# Altium footprint library cap.PcbLib: 78 footprints (part 4 of 5)
Each footprint in its own frame and in the unit in brackets; x right, y up, seen from the top. Pads: shape width x height; smd on the part's side, far side on the other; paste and mask are expansions set on the pad; w line width, h text height; cw(c..) or ccw(c..) is an arc to the next point about the centre after c.
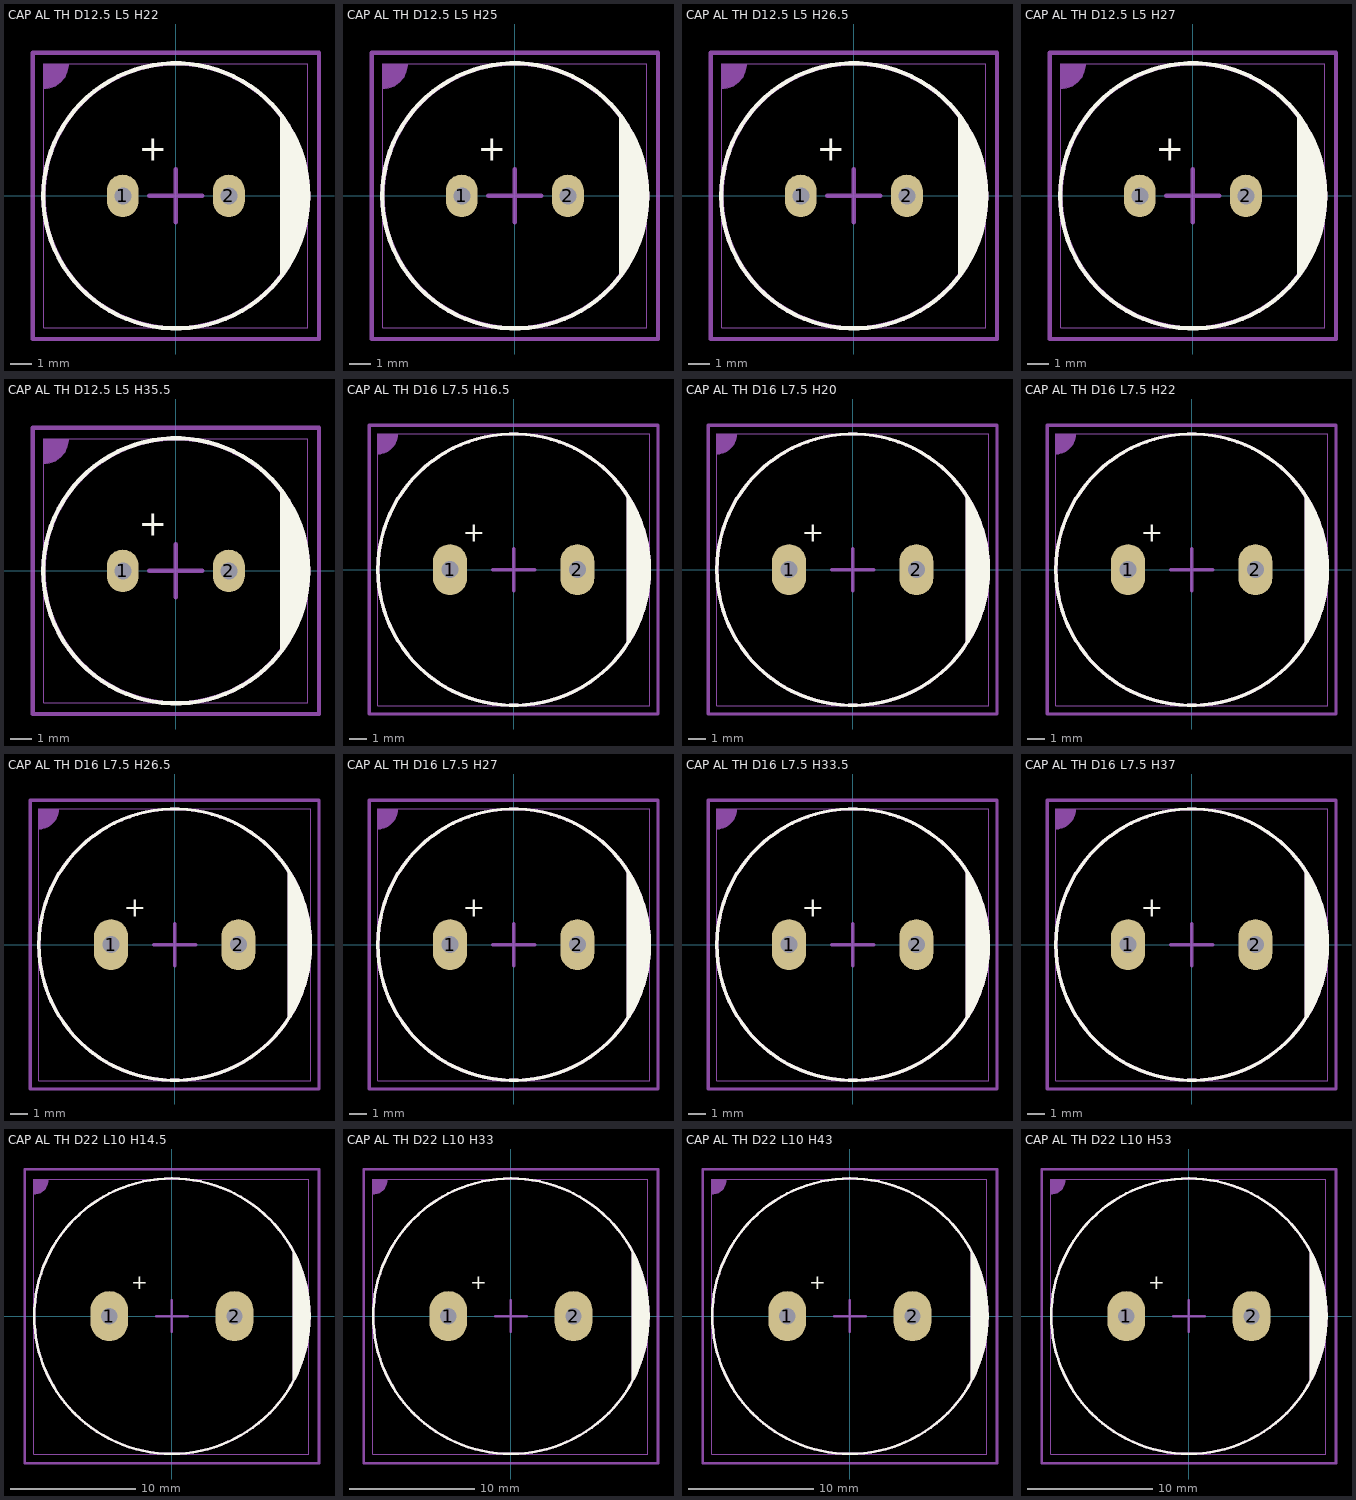
[diagram p3: the footprints below, top view; thin cyan lines are the x and y axes]

## CAP AL TH D12.5 L5 H22 [mm] "12.5MM Diameter, 5MM Lead Spacing Aluminium Capacitor"
height 22
pads (2):
  oval 1.5x2 hole 0.8: 1(-2.5,0) 2(2.5,0)
Top Overlay:
  circle w0.2: c0,0 r6.25
  region: 5,-3.75 5,3.75 5.75,2.5 6.25,1 6.25,0 6,-1.5 5.75,-2.5
  lines w0.2: 5,-3.75 5,3.75
  text "+" at -1.75,1.25 h2
Mechanical 13:
  circle w0.2: c0,0 r6.241
  lines w0.2: 5,-3.75 5,3.75
M15:
  region: -6.223,6.223 -6.223,5.038 -5.654,5.176 -5.211,5.6 -5.028,6.223
  lines w0.051: -6.223,-6.223 6.223,-6.223 6.223,6.223 -6.223,6.223 -6.223,-6.223 ; -6.223,5.052 ccw(c-6.223,6.223) -5.052,6.223 cw(c-6.223,6.223) -6.223,5.052
  text ".Designator" at -2.032,-1.397 h5.08
Mechanical 19:
  lines w0.2: -1.25,0 1.25,0 ; 0,-1.25 0,1.25 ; -6.75,-6.75 -6.75,0 -6.75,6.75 0,6.75 6.75,6.75 6.75,0 6.75,-6.75 0,-6.75 -6.75,-6.75
3D body "CAP ALTH D-12.5MM L-5.0MM H-22MM.STEP": height 22.2, standoff -3, extent -6.25,-6.249 6.25,6.249

## CAP AL TH D12.5 L5 H25 [mm] "12.5MM Diameter, 5MM Lead Spacing Aluminium Capacitor"
height 25
pads (2):
  oval 1.5x2 hole 0.8: 1(-2.5,0) 2(2.5,0)
Top Overlay:
  circle w0.2: c0,0 r6.25
  region: 5,-3.75 5,3.75 5.75,2.5 6.25,1 6.25,0 6,-1.5 5.75,-2.5
  lines w0.2: 5,-3.75 5,3.75
  text "+" at -1.75,1.25 h2
Mechanical 13:
  circle w0.2: c0,0 r6.241
  lines w0.2: 5,-3.75 5,3.75
M15:
  region: -6.223,6.223 -6.223,5.038 -5.654,5.176 -5.211,5.6 -5.028,6.223
  lines w0.051: -6.223,-6.223 6.223,-6.223 6.223,6.223 -6.223,6.223 -6.223,-6.223 ; -6.223,5.052 ccw(c-6.223,6.223) -5.052,6.223 cw(c-6.223,6.223) -6.223,5.052
  text ".Designator" at -2.032,-1.397 h5.08
Mechanical 19:
  lines w0.2: -1.25,0 1.25,0 ; 0,-1.25 0,1.25 ; -6.75,-6.75 0,-6.75 6.75,-6.75 6.75,0 6.75,6.75 0,6.75 -6.75,6.75 -6.75,0 -6.75,-6.75
3D body "CAP ALTH D-12.5MM L-5.0MM H-25MM.STEP": height 25.2, standoff -3, extent -6.25,-6.246 6.25,6.247

## CAP AL TH D12.5 L5 H26.5 [mm] "12.5MM Diameter, 5MM Lead Spacing Aluminium Capacitor"
height 26.5
pads (2):
  oval 1.5x2 hole 0.8: 1(-2.5,0) 2(2.5,0)
Top Overlay:
  circle w0.2: c0,0 r6.25
  region: 5,-3.75 5,3.75 5.75,2.5 6.25,1 6.25,0 6,-1.5 5.75,-2.5
  lines w0.2: 5,-3.75 5,3.75
  text "+" at -1.75,1.25 h2
Mechanical 13:
  circle w0.2: c0,0 r6.241
  lines w0.2: 5,-3.75 5,3.75
M15:
  region: -6.223,6.223 -6.223,5.038 -5.654,5.176 -5.211,5.6 -5.028,6.223
  lines w0.051: -6.223,-6.223 6.223,-6.223 6.223,6.223 -6.223,6.223 -6.223,-6.223 ; -6.223,5.052 ccw(c-6.223,6.223) -5.052,6.223 cw(c-6.223,6.223) -6.223,5.052
  text ".Designator" at -2.032,-1.397 h5.08
Mechanical 19:
  lines w0.2: -1.25,0 1.25,0 ; 0,-1.25 0,1.25 ; -6.75,-6.75 0,-6.75 6.75,-6.75 6.75,0 6.75,6.75 0,6.75 -6.75,6.75 -6.75,0 -6.75,-6.75
3D body "CAP ALTH D-12.5MM L-5.0MM H-26.5MM.STEP": height 26.7, standoff -3, extent -6.25,-6.25 6.25,6.25

## CAP AL TH D12.5 L5 H27 [mm] "12.5MM Diameter, 5MM Lead Spacing Aluminium Capacitor"
height 27
pads (2):
  oval 1.5x2 hole 0.8: 1(-2.5,0) 2(2.5,0)
Top Overlay:
  circle w0.2: c0,0 r6.25
  region: 5,-3.75 5,3.75 5.75,2.5 6.25,1 6.25,0 6,-1.5 5.75,-2.5
  lines w0.2: 5,-3.75 5,3.75
  text "+" at -1.75,1.25 h2
Mechanical 13:
  circle w0.2: c0,0 r6.241
  lines w0.2: 5,-3.75 5,3.75
Top Component:
  lines w0.051: -6.223,-6.223 6.223,-6.223
M15:
  region: -6.223,6.223 -6.223,5.038 -5.654,5.176 -5.211,5.6 -5.028,6.223
  lines w0.051: -6.223,-6.223 -6.223,6.223 6.223,6.223 6.223,-6.223 ; -6.223,5.052 ccw(c-6.223,6.223) -5.052,6.223 cw(c-6.223,6.223) -6.223,5.052
  text ".Designator" at -2.032,-1.397 h5.08
Mechanical 19:
  lines w0.2: -1.25,0 1.25,0 ; 0,-1.25 0,1.25 ; -6.75,-6.75 -6.75,0 -6.75,6.75 0,6.75 6.75,6.75 6.75,0 6.75,-6.75 0,-6.75 -6.75,-6.75
3D body "CAP ALTH D-12.5MM L-5.0MM H-27MM.STEP": height 27.2, standoff -3, extent -6.25,-6.25 6.25,6.25

## CAP AL TH D12.5 L5 H35.5 [mm] "12.5MM Diameter, 5MM Lead Spacing Aluminium Capacitor"
height 35.5
pads (2):
  oval 1.5x2 hole 0.8: 1(-2.5,0) 2(2.5,0)
Top Overlay:
  circle w0.2: c0,0 r6.25
  region: 5,-3.75 5,3.75 5.75,2.5 6.25,1 6.25,0 6,-1.5 5.75,-2.5
  lines w0.2: 5,-3.75 5,3.75
  text "+" at -1.75,1.25 h2
Mechanical 13:
  circle w0.2: c0,0 r6.241
  lines w0.2: 5,-3.75 5,3.75
M15:
  region: -6.223,6.223 -6.223,5.038 -5.654,5.176 -5.211,5.6 -5.028,6.223
  lines w0.051: -6.223,-6.223 6.223,-6.223 6.223,6.223 -6.223,6.223 -6.223,-6.223 ; -6.223,5.052 ccw(c-6.223,6.223) -5.052,6.223 cw(c-6.223,6.223) -6.223,5.052
  text ".Designator" at -2.032,-1.397 h5.08
Mechanical 19:
  lines w0.2: -1.25,0 1.25,0 ; 0,-1.25 0,1.25 ; -6.75,-6.75 -6.75,0 -6.75,6.75 0,6.75 6.75,6.75 6.75,0 6.75,-6.75 0,-6.75 -6.75,-6.75
3D body "CAP ALTH D-12.5MM L-5.0MM H-35.5MM.STEP": height 35.7, standoff -3, extent -6.25,-6.25 6.25,6.25

## CAP AL TH D16 L7.5 H16.5 [mm] "16MM Diameter, 7.5MM Lead Spacing Aluminium Capacitor"
height 16.5
pads (2):
  oval 2x3 hole 1: 1(-3.75,0) 2(3.75,0)
Top Overlay:
  circle w0.2: c0,0 r8
  region: 6.75,-4.25 6.75,4.25 7.5,2.75 8,1 8,0 7.75,-1.75 7.5,-2.75
  lines w0.2: 6.75,-4.25 6.75,4.25
  text "+" at -3,1.25 h2
Mechanical 13:
  circle w0.2: c0,0 r8
  lines w0.2: 6.75,-4.25 6.75,4.25
M15:
  region: -8.001,8.001 -8.001,6.816 -7.432,6.954 -6.989,7.378 -6.806,8.001
  lines w0.051: -8.001,-8.001 8.001,-8.001 8.001,8.001 -8.001,8.001 -8.001,-8.001 ; -8.001,6.83 ccw(c-8.001,8.001) -6.83,8.001 cw(c-8.001,8.001) -8.001,6.83
  text ".Designator" at -2.032,-1.397 h5.08
Mechanical 19:
  lines w0.2: -1.25,0 1.25,0 ; 0,-1.25 0,1.25 ; -8.5,-8.5 -8.5,8.5 8.5,8.5 8.5,-8.5 -8.5,-8.5
3D body "CAP ALTH D-16MM L-7.5MM H-16.5MM .STEP": height 16.7, standoff -3, extent -8,-7.991 8,7.991

## CAP AL TH D16 L7.5 H20 [mm] "16MM Diameter, 7.5MM Lead Spacing Aluminium Capacitor"
height 20
pads (2):
  oval 2x3 hole 1: 1(-3.75,0) 2(3.75,0)
Top Overlay:
  circle w0.2: c0,0 r8
  region: 6.75,-4.25 6.75,4.25 7.5,2.75 8,1 8,0 7.75,-1.75 7.5,-2.75
  lines w0.2: 6.75,-4.25 6.75,4.25
  text "+" at -3,1.25 h2
Mechanical 13:
  circle w0.2: c0,0 r8
  lines w0.2: 6.75,-4.25 6.75,4.25
M15:
  region: -8.001,8.001 -8.001,6.816 -7.432,6.954 -6.989,7.378 -6.806,8.001
  lines w0.051: -8.001,-8.001 8.001,-8.001 8.001,8.001 -8.001,8.001 -8.001,-8.001 ; -8.001,6.83 ccw(c-8.001,8.001) -6.83,8.001 cw(c-8.001,8.001) -8.001,6.83
  text ".Designator" at -2.032,-1.397 h5.08
Mechanical 19:
  lines w0.2: -1.25,0 1.25,0 ; 0,-1.25 0,1.25 ; -8.5,-8.5 -8.5,8.5 8.5,8.5 8.5,-8.5 -8.5,-8.5
3D body "CAP ALTH D-16MM L-7.5MM H-20MM .STEP": height 20.2, standoff -3, extent -8,-7.994 8,7.994

## CAP AL TH D16 L7.5 H22 [mm] "16MM Diameter, 7.5MM Lead Spacing Aluminium Capacitor"
height 22
pads (2):
  oval 2x3 hole 1: 1(-3.75,0) 2(3.75,0)
Top Overlay:
  circle w0.2: c0,0 r8
  region: 6.75,-4.25 6.75,4.25 7.5,2.75 8,1 8,0 7.75,-1.75 7.5,-2.75
  lines w0.2: 6.75,-4.25 6.75,4.25
  text "+" at -3,1.25 h2
Mechanical 13:
  circle w0.2: c0,0 r8
  lines w0.2: 6.75,-4.25 6.75,4.25
M15:
  region: -8.001,8.001 -8.001,6.816 -7.432,6.954 -6.989,7.378 -6.806,8.001
  lines w0.051: -8.001,-8.001 8.001,-8.001 8.001,8.001 -8.001,8.001 -8.001,-8.001 ; -8.001,6.83 ccw(c-8.001,8.001) -6.83,8.001 cw(c-8.001,8.001) -8.001,6.83
  text ".Designator" at -2.032,-1.397 h5.08
Mechanical 19:
  lines w0.2: -1.25,0 1.25,0 ; 0,-1.25 0,1.25 ; -8.5,-8.5 -8.5,8.5 8.5,8.5 8.5,-8.5 -8.5,-8.5
3D body "CAP ALTH D-16MM L-7.5MM H-22MM .STEP": height 22.2, standoff -3, extent -8,-7.998 8,7.998

## CAP AL TH D16 L7.5 H26.5 [mm] "16MM Diameter, 7.5MM Lead Spacing Aluminium Capacitor"
height 26.5
pads (2):
  oval 2x3 hole 1: 1(-3.75,0) 2(3.75,0)
Top Overlay:
  circle w0.2: c0,0 r8
  region: 6.75,-4.25 6.75,4.25 7.5,2.75 8,1 8,0 7.75,-1.75 7.5,-2.75
  lines w0.2: 6.75,-4.25 6.75,4.25
  text "+" at -3,1.25 h2
Mechanical 13:
  circle w0.2: c0,0 r8
  lines w0.2: 6.75,-4.25 6.75,4.25
M15:
  region: -8.001,8.001 -8.001,6.816 -7.432,6.954 -6.989,7.378 -6.806,8.001
  lines w0.051: -8.001,-8.001 8.001,-8.001 8.001,8.001 -8.001,8.001 -8.001,-8.001 ; -8.001,6.83 ccw(c-8.001,8.001) -6.83,8.001 cw(c-8.001,8.001) -8.001,6.83
  text ".Designator" at -2.032,-1.397 h5.08
Mechanical 19:
  lines w0.2: -1.25,0 1.25,0 ; 0,-1.25 0,1.25 ; -8.5,-8.5 8.5,-8.5 8.5,8.5 -8.5,8.5 -8.5,-8.5
3D body "CAP ALTH D-16MM L-7.5MM H-26.5MM .STEP": height 26.7, standoff -3, extent -8,-7.994 8,7.995

## CAP AL TH D16 L7.5 H27 [mm] "16MM Diameter, 7.5MM Lead Spacing Aluminium Capacitor"
height 27
pads (2):
  oval 2x3 hole 1: 1(-3.75,0) 2(3.75,0)
Top Overlay:
  circle w0.2: c0,0 r8
  region: 6.75,-4.25 6.75,4.25 7.5,2.75 8,1 8,0 7.75,-1.75 7.5,-2.75
  lines w0.2: 6.75,-4.25 6.75,4.25
  text "+" at -3,1.25 h2
Mechanical 13:
  circle w0.2: c0,0 r8
  lines w0.2: 6.75,-4.25 6.75,4.25
M15:
  region: -8.001,8.001 -8.001,6.816 -7.432,6.954 -6.989,7.378 -6.806,8.001
  lines w0.051: -8.001,-8.001 8.001,-8.001 8.001,8.001 -8.001,8.001 -8.001,-8.001 ; -8.001,6.83 ccw(c-8.001,8.001) -6.83,8.001 cw(c-8.001,8.001) -8.001,6.83
  text ".Designator" at -2.032,-1.397 h5.08
Mechanical 19:
  lines w0.2: -1.25,0 1.25,0 ; 0,-1.25 0,1.25 ; -8.5,-8.5 8.5,-8.5 8.5,8.5 -8.5,8.5 -8.5,-8.5
3D body "CAP ALTH D-16MM L-7.5MM H-27MM .STEP": height 27.2, standoff -3, extent -8,-7.994 8,7.995

## CAP AL TH D16 L7.5 H33.5 [mm] "16MM Diameter, 7.5MM Lead Spacing Aluminium Capacitor"
height 33.5
pads (2):
  oval 2x3 hole 1: 1(-3.75,0) 2(3.75,0)
Top Overlay:
  circle w0.2: c0,0 r8
  region: 6.75,-4.25 6.75,4.25 7.5,2.75 8,1 8,0 7.75,-1.75 7.5,-2.75
  lines w0.2: 6.75,-4.25 6.75,4.25
  text "+" at -3,1.25 h2
Mechanical 13:
  circle w0.2: c0,0 r8
  lines w0.2: 6.75,-4.25 6.75,4.25
M15:
  region: -8.001,8.001 -8.001,6.816 -7.432,6.954 -6.989,7.378 -6.806,8.001
  lines w0.051: -8.001,-8.001 8.001,-8.001 8.001,8.001 -8.001,8.001 -8.001,-8.001 ; -8.001,6.83 ccw(c-8.001,8.001) -6.83,8.001 cw(c-8.001,8.001) -8.001,6.83
  text ".Designator" at -2.032,-1.397 h5.08
Mechanical 19:
  lines w0.2: -1.25,0 1.25,0 ; 0,-1.25 0,1.25 ; -8.5,-8.5 -8.5,8.5 8.5,8.5 8.5,-8.5 -8.5,-8.5
3D body "CAP ALTH D-16MM L-7.5MM H-33.5MM.STEP": height 33.7, standoff -3, extent -8,-8 8,8

## CAP AL TH D16 L7.5 H37 [mm] "16MM Diameter, 7.5MM Lead Spacing Aluminium Capacitor"
height 37
pads (2):
  oval 2x3 hole 1: 1(-3.75,0) 2(3.75,0)
Top Overlay:
  circle w0.2: c0,0 r8
  region: 6.75,-4.25 6.75,4.25 7.5,2.75 8,1 8,0 7.75,-1.75 7.5,-2.75
  lines w0.2: 6.75,-4.25 6.75,4.25
  text "+" at -3,1.25 h2
Mechanical 13:
  circle w0.2: c0,0 r8
  lines w0.2: 6.75,-4.25 6.75,4.25
M15:
  region: -8.001,8.001 -8.001,6.816 -7.432,6.954 -6.989,7.378 -6.806,8.001
  lines w0.051: -8.001,-8.001 8.001,-8.001 8.001,8.001 -8.001,8.001 -8.001,-8.001 ; -8.001,6.83 ccw(c-8.001,8.001) -6.83,8.001 cw(c-8.001,8.001) -8.001,6.83
  text ".Designator" at -2.032,-1.397 h5.08
Mechanical 19:
  lines w0.2: -1.25,0 1.25,0 ; 0,-1.25 0,1.25 ; -8.5,-8.5 -8.5,8.5 8.5,8.5 8.5,-8.5 -8.5,-8.5
3D body "CAP ALTH D-16MM L-7.5MM H-37MM.STEP": height 37.2, standoff -3, extent -8,-8 8,8

## CAP AL TH D22 L10 H14.5 [mm] "16MM Diameter, 7.5MM Lead Spacing Aluminium Capacitor"
height 14.5
pads (2):
  oval 3x4 hole 1.3: 1(-5,0) 2(5,0)
Top Overlay:
  circle w0.2: c0,0 r11
  region: 9.75,-5 9.75,5 10.75,2.5 11,1 11,0 11,-1 10.5,-3.25
  lines w0.2: 9.75,-5 9.75,5
  text "+" at -3.25,1.75 h2
Mechanical 13:
  circle w0.2: c0,0 r11
  lines w0.2: 9.75,-5 9.75,5
Top Component:
  lines w0.051: -11.049,-11.049 10.922,-11.049
M15:
  region: -11.049,10.922 -11.049,9.737 -10.48,9.875 -10.037,10.299 -9.854,10.922
  lines w0.051: -11.049,-11.049 -11.049,10.922 10.922,10.922 10.922,-11.049 ; -11.049,9.751 ccw(c-11.049,10.922) -9.878,10.922 cw(c-11.049,10.922) -11.049,9.751
  text ".Designator" at -3.048,-2.032 h7.62
Mechanical 19:
  lines w0.2: -1.25,0 1.25,0 ; 0,-1.25 0,1.25 ; -11.75,-11.75 11.75,-11.75 11.75,11.75 -11.75,11.75 -11.75,-11.75
3D body "CAP ALTH D-22MM L-10MM H-14.5MM.STEP": height 14.7, standoff -3, extent -11,-10.99 11,10.991

## CAP AL TH D22 L10 H33 [mm] "16MM Diameter, 7.5MM Lead Spacing Aluminium Capacitor"
height 33
pads (2):
  oval 3x4 hole 1.3: 1(-5,0) 2(5,0)
Top Overlay:
  circle w0.2: c0,0 r11
  region: 9.75,-5 9.75,5 10.75,2.5 11,1 11,0 11,-1 10.5,-3.25
  lines w0.2: 9.75,-5 9.75,5
  text "+" at -3.25,1.75 h2
Mechanical 13:
  circle w0.2: c0,0 r11
  lines w0.2: 9.75,-5 9.75,5
M15:
  region: -11.049,10.922 -11.049,9.737 -10.48,9.875 -10.037,10.299 -9.854,10.922
  lines w0.051: -11.049,-11.049 10.922,-11.049 10.922,10.922 -11.049,10.922 -11.049,-11.049 ; -11.049,9.751 ccw(c-11.049,10.922) -9.878,10.922 cw(c-11.049,10.922) -11.049,9.751
  text ".Designator" at -3.048,-2.032 h7.62
Mechanical 19:
  lines w0.2: -1.25,0 1.25,0 ; 0,-1.25 0,1.25 ; -11.75,-11.75 -11.75,11.75 11.75,11.75 11.75,-11.75 -11.75,-11.75
3D body "CAP ALTH D-22MM L-10MM H-33MM.STEP": height 33.2, standoff -3, extent -11,-10.995 11,10.995

## CAP AL TH D22 L10 H43 [mm] "16MM Diameter, 7.5MM Lead Spacing Aluminium Capacitor"
height 43
pads (2):
  oval 3x4 hole 1.3: 1(-5,0) 2(5,0)
Top Overlay:
  circle w0.2: c0,0 r11
  region: 9.75,-5 9.75,5 10.75,2.5 11,1 11,0 11,-1 10.5,-3.25
  lines w0.2: 9.75,-5 9.75,5
  text "+" at -3.25,1.75 h2
Mechanical 13:
  circle w0.2: c0,0 r11
  lines w0.2: 9.75,-5 9.75,5
M15:
  region: -11.049,10.922 -11.049,9.737 -10.48,9.875 -10.037,10.299 -9.854,10.922
  lines w0.051: -11.049,-11.049 10.922,-11.049 10.922,10.922 -11.049,10.922 -11.049,-11.049 ; -11.049,9.751 ccw(c-11.049,10.922) -9.878,10.922 cw(c-11.049,10.922) -11.049,9.751
  text ".Designator" at -3.048,-2.032 h7.62
Mechanical 19:
  lines w0.2: -1.25,0 1.25,0 ; 0,-1.25 0,1.25 ; -11.75,-11.75 11.75,-11.75 11.75,11.75 -11.75,11.75 -11.75,-11.75
3D body "CAP ALTH D-22MM L-10MM H-43MM.STEP": height 43.2, standoff -3, extent -11,-10.983 11,10.984

## CAP AL TH D22 L10 H53 [mm] "16MM Diameter, 7.5MM Lead Spacing Aluminium Capacitor"
height 53
pads (2):
  oval 3x4 hole 1.3: 1(-5,0) 2(5,0)
Top Overlay:
  circle w0.2: c0,0 r11
  region: 9.75,-5 9.75,5 10.75,2.5 11,1 11,0 11,-1 10.5,-3.25
  lines w0.2: 9.75,-5 9.75,5
  text "+" at -3.25,1.75 h2
Mechanical 13:
  circle w0.2: c0,0 r11
  lines w0.2: 9.75,-5 9.75,5
M15:
  region: -11.049,10.922 -11.049,9.737 -10.48,9.875 -10.037,10.299 -9.854,10.922
  lines w0.051: -11.049,-11.049 10.922,-11.049 10.922,10.922 -11.049,10.922 -11.049,-11.049 ; -11.049,9.751 ccw(c-11.049,10.922) -9.878,10.922 cw(c-11.049,10.922) -11.049,9.751
  text ".Designator" at -3.048,-2.032 h7.62
Mechanical 19:
  lines w0.2: -1.25,0 1.25,0 ; 0,-1.25 0,1.25 ; -11.75,-11.75 -11.75,11.75 11.75,11.75 11.75,-11.75 -11.75,-11.75
3D body "CAP ALTH D-22MM L-10MM H-53MM.STEP": height 53.2, standoff -3, extent -11,-10.97 11,10.971